# Altium footprint library Components - 06.07.24 - 21.PcbLib: 1 footprints
Each footprint in its own frame and in the unit in brackets; x right, y up, seen from the top. Pads: shape width x height; smd on the part's side, far side on the other; paste and mask are expansions set on the pad; w line width, h text height; cw(c..) or ccw(c..) is an arc to the next point about the centre after c.
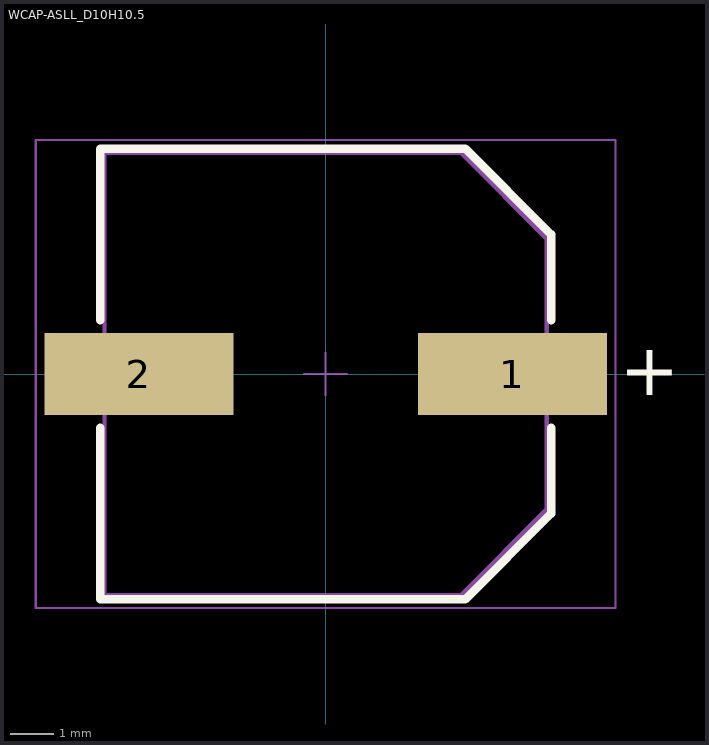
[diagram p0: the footprint, top view; thin cyan lines are the x and y axes]

## WCAP-ASLL_D10H10.5 [mm] "Aluminium Electrolytic V-Chip SMT Capacitors, 10x10.5mm"
height 10.5
pads (2):
  rect 4.4x1.9 smd: 1(4.35,0) 2(-4.35,0)
Top Overlay:
  lines w0.2: -5.25,-1.25 -5.25,-5.25 3.25,-5.25 5.25,-3.25 5.25,-1.25 ; -5.25,1.25 -5.25,5.25 3.25,5.25 5.25,3.25 5.25,1.25
  text "+" at 6.85,-0.5 h1.22
Top Component Outline:
  lines w0.1: -5.15,-5.15 -5.15,5.15 3.15,5.15 5.15,3.15 5.15,-3.15 3.15,-5.15 -5.15,-5.15
Top Courtyard:
  lines w0.05: -6.75,-5.45 6.75,-5.45 6.75,5.45 -6.75,5.45 -6.75,-5.45
Top Component Center:
  lines w0.05: -0.5,0 0.5,0 ; 0,-0.5 0,0.5
Top Designator (Mech19):
  text ".Designator" at -7.498,-0.5 h1.5
3D body "10x10.5x4.5.stp": height 10.5, standoff 0, extent -5.5,-5.15 5.5,5.15